# EAGLE library part ESP8266_ESP-01 (library VinoRodrigues_Custom_Eagle)
ESP8266 ESP-01 Module The ESP8266 WiFi Module is a self contained SOC with integrated TCP/IP protocol stack that can give any microcontroller access to your WiFi network. The ESP8266 is capable of either hosting an application or offloading all Wi-Fi networking functions from another application processor. Each ESP8266 module comes pre-programmed with an AT command set firmware, meaning, you can simply hook this up to your Arduino device and get about as much WiFi-ability as a WiFi Shield offers (and that’s just out of the box)! The ESP8266 module is an extremely cost effective board with a huge, and ever growing, community. This module has a powerful enough on-board processing and storage capability that allows it to be integrated with the sensors and other application specific devices through its GPIOs with minimal development up-front and minimal loading during runtime. Its high degree of on-chip integration allows for minimal external circuitry, including the front-end module, is designed to occupy minimal PCB area. The ESP8266 supports APSD for VoIP applications and Bluetooth co-existance interfaces, it contains a self-calibrated RF allowing it to work under all operating conditions, and requires no external RF parts. SparkFun Product Page <https://www.sparkfun.com/products/13678>
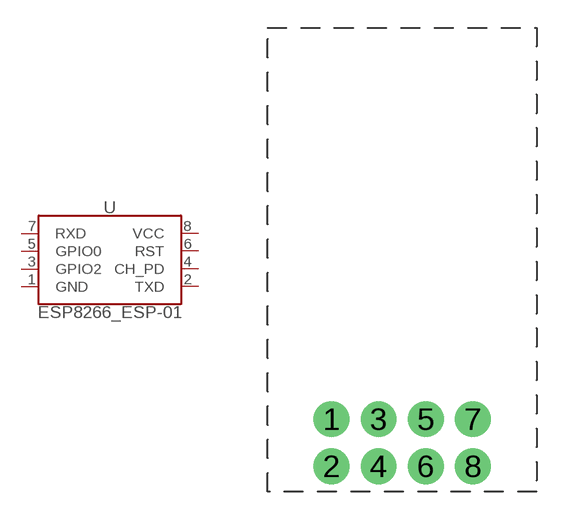
[diagram p3: symbol with the pads of ESP8266_ESP-01; footprint ESP8266_ESP-01]

Designator prefix U

## ESP8266_ESP-01 (SF_ID: WRL-13678)  [ESP8266_ESP-01]
1  GND
2  TXD
3  GPIO2
4  CH_PD
5  GPIO0
6  RST
7  RXD
8  VCC

## Footprint ESP8266_ESP-01 (pad centres in mm)
ESP8266 ESP-01 Module
drill 1.016 pad 1.93: 1 -3.81,1.316; 2 -3.81,-1.224; 3 -1.27,1.316; 4 -1.27,-1.224; 5 1.27,1.316; 6 1.27,-1.224; 7 3.81,1.316; 8 3.81,-1.224